# EAGLE library part SF303GJ26-3 (library 1dah)
5-way tactile switch
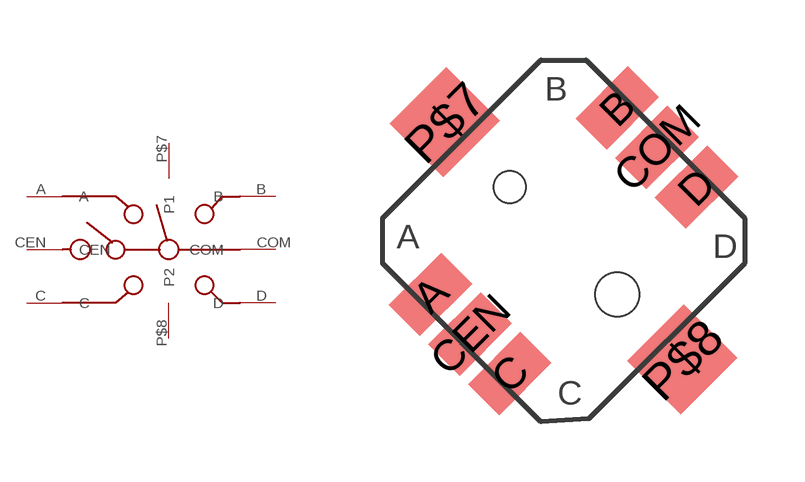
[diagram p7: symbol with the pads of SG303GJ26-3; footprint SG303GJ26-3]

Designator prefix -

## SF303GJ26-3  [SG303GJ26-3]
A  A
B  B
C  C
CEN  CEN
COM  COM
D  D
P$7  P1
P$8  P2

## Footprint SG303GJ26-3 (pad centres in mm)
smd 1.85 x 1.1 rotated 45: A -3.448,-1.643; B 1.219,3.023; C -1.468,-3.623; CEN -2.458,-2.633; COM 2.209,2.033; D 3.199,1.044
smd 2 x 1.9 rotated 45: P$7 -3.094,2.67; P$8 2.845,-3.27
hole 1.1 at 1.219,-1.643
hole 0.8 at -1.468,1.044